# Altium footprint library 691 250 910 0xx.PcbLib: 2 footprints
Each footprint in its own frame and in the unit in brackets; x right, y up, seen from the top. Pads: shape width x height; smd on the part's side, far side on the other; paste and mask are expansions set on the pad; w line width, h text height; cw(c..) or ccw(c..) is an arc to the next point about the centre after c.
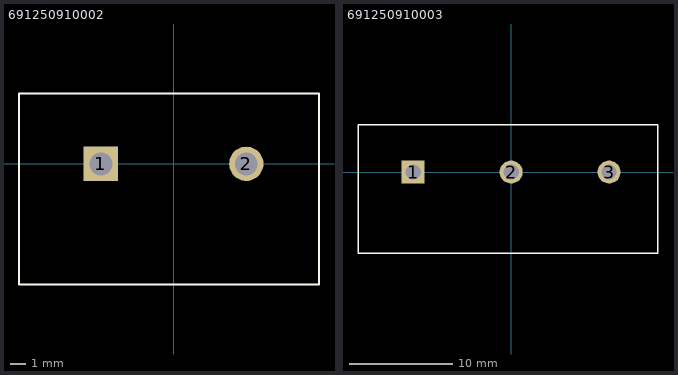
[diagram p0: the footprints below, top view; thin cyan lines are the x and y axes]

## 691250910002 [mm] "Serie 2509 - 9.52 mm _ 2 pins"
height 21.5
pads (2):
  rect 2.25x2.25 hole 1.5: 1(-4.76,0)
  round 2.25 hole 1.5: 2(4.76,0)
Top Overlay:
  lines w0.127: -10.12,-7.9 9.52,-7.9 9.52,4.6 -10.12,4.6 -10.12,-7.9
3D body: height 21.6, standoff -4.9, extent -10.12,-7.9 9.52,4.6

## 691250910003 [mm] "Serie 2509 - 9.52 mm _ 3 pins"
height 21.5
pads (3):
  rect 2.25x2.25 hole 1.5: 1(-9.52,0)
  round 2.25 hole 1.5: 2(0,0) 3(9.52,0)
Top Overlay:
  lines w0.127: -14.88,-7.9 -14.88,4.6 14.28,4.6 14.28,-7.9 -14.88,-7.9
3D body: height 21.6, standoff -4.9, extent -14.88,-7.9 14.28,4.6